# EAGLE library part SMT_IDC10 (library useful)
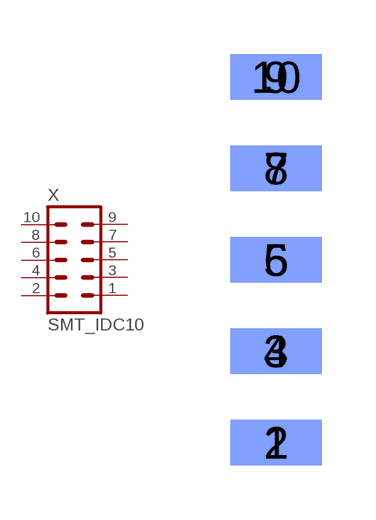
[diagram p0: symbol with the pads of SMT_IDC10; footprint SMT_IDC10]

Designator prefix X

## SMT_IDC10  [SMT_IDC10]
1  1  pas
2  2  pas
3  3  pas
4  4  pas
5  5  pas
6  6  pas
7  7  pas
8  8  pas
9  9  pas
10  10  pas

## Footprint SMT_IDC10 (pad centres in mm)
Stiftleiste zum seitlichen anlöten an die Platine
smd 2.54 x 1.27: 1 0,0; 3 0,2.54; 5 0,5.08; 7 0,7.62; 9 0,10.16
smd 2.54 x 1.27 bottom: 2 0,0; 4 0,2.54; 6 0,5.08; 8 0,7.62; 10 0,10.16